# Altium footprint library Ethernet.PcbLib: 2 footprints
Each footprint in its own frame and in the unit in brackets; x right, y up, seen from the top. Pads: shape width x height; smd on the part's side, far side on the other; paste and mask are expansions set on the pad; w line width, h text height; cw(c..) or ccw(c..) is an arc to the next point about the centre after c.
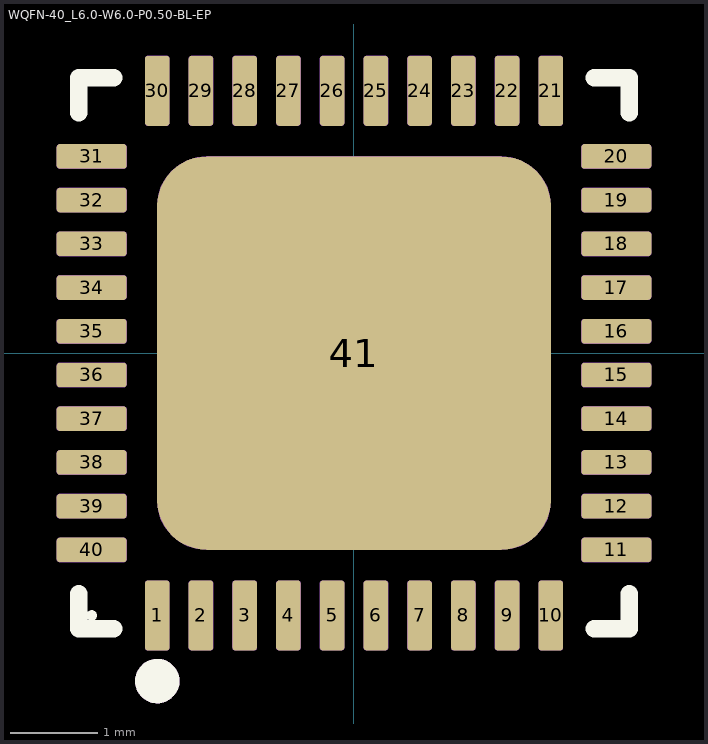
[diagram p0: the footprints below, top view; thin cyan lines are the x and y axes]

## PCBComponent_1 [mm]

## WQFN-40_L6.0-W6.0-P0.50-BL-EP [mm] "WQFN-40-EP(6x6); QFN-40-EP(6x6); QFN-40(6x6)"
height -2909.208
pads (41):
  rrect25% 0.28x0.8 smd mask+0.05: 1(-2.25,-3) 2(-1.75,-3) 3(-1.25,-3) 4(-0.75,-3) 5(-0.25,-3) 6(0.25,-3) 7(0.75,-3) 8(1.25,-3) 9(1.75,-3) 10(2.25,-3) 21(2.25,3) 22(1.75,3) 23(1.25,3) 24(0.75,3) 25(0.25,3) 26(-0.25,3) 27(-0.75,3) 28(-1.25,3) 29(-1.75,3) 30(-2.25,3)
  rrect25% 0.8x0.28 smd mask+0.05: 11(3,-2.25) 12(3,-1.75) 13(3,-1.25) 14(3,-0.75) 15(3,-0.25) 16(3,0.25) 17(3,0.75) 18(3,1.25) 19(3,1.75) 20(3,2.25) 31(-3,2.25) 32(-3,1.75) 33(-3,1.25) 34(-3,0.75) 35(-3,0.25) 36(-3,-0.25) 37(-3,-0.75) 38(-3,-1.25) 39(-3,-1.75) 40(-3,-2.25)
  rrect25% 4.5x4.5 smd mask+0.05: 41(0,0)
Top Overlay:
  circle w0.254: c-2.25,-3.75 r0.127
  region: -2.94,-3 -2.941,-2.988 -2.945,-2.977 -2.95,-2.967 -2.958,-2.958 -2.967,-2.95 -2.977,-2.945 -2.988,-2.941 -3,-2.94 -3.012,-2.941 -3.023,-2.945 -3.033,-2.95 -3.042,-2.958 -3.05,-2.967 -3.055,-2.977 -3.059,-2.988 -3.06,-3 -3.059,-3.012 -3.055,-3.023 -3.05,-3.033 -3.042,-3.042 -3.033,-3.05 -3.023,-3.055 -3.012,-3.059 -3,-3.06 -2.988,-3.059 -2.977,-3.055 -2.967,-3.05 -2.958,-3.042 -2.95,-3.033 -2.945,-3.023 -2.941,-3.012
  lines w0.2: -3.15,-2.75 -3.15,-3.15 -2.75,-3.15 ; -3.15,2.75 -3.15,3.15 -2.75,3.15 ; 2.75,-3.15 3.15,-3.15 3.15,-2.75 ; 2.75,3.15 3.15,3.15 3.15,2.75
Mechanical 2:
  circle w0.254: c-2.25,-3.75 r0.127
Mechanical 9:
  drawing of 41 lines, arcs and shapes, not listed
3D body "WQFN-40_L6.0-W6.0-H0.8-P0.50.step": height 0.8, standoff 0, extent -3,-3 3,3